# Altium schematic symbol library NewSmartwatch.SchLib: 40 symbols
Pins are listed as number, name and electrical type; pins without a type are passive.

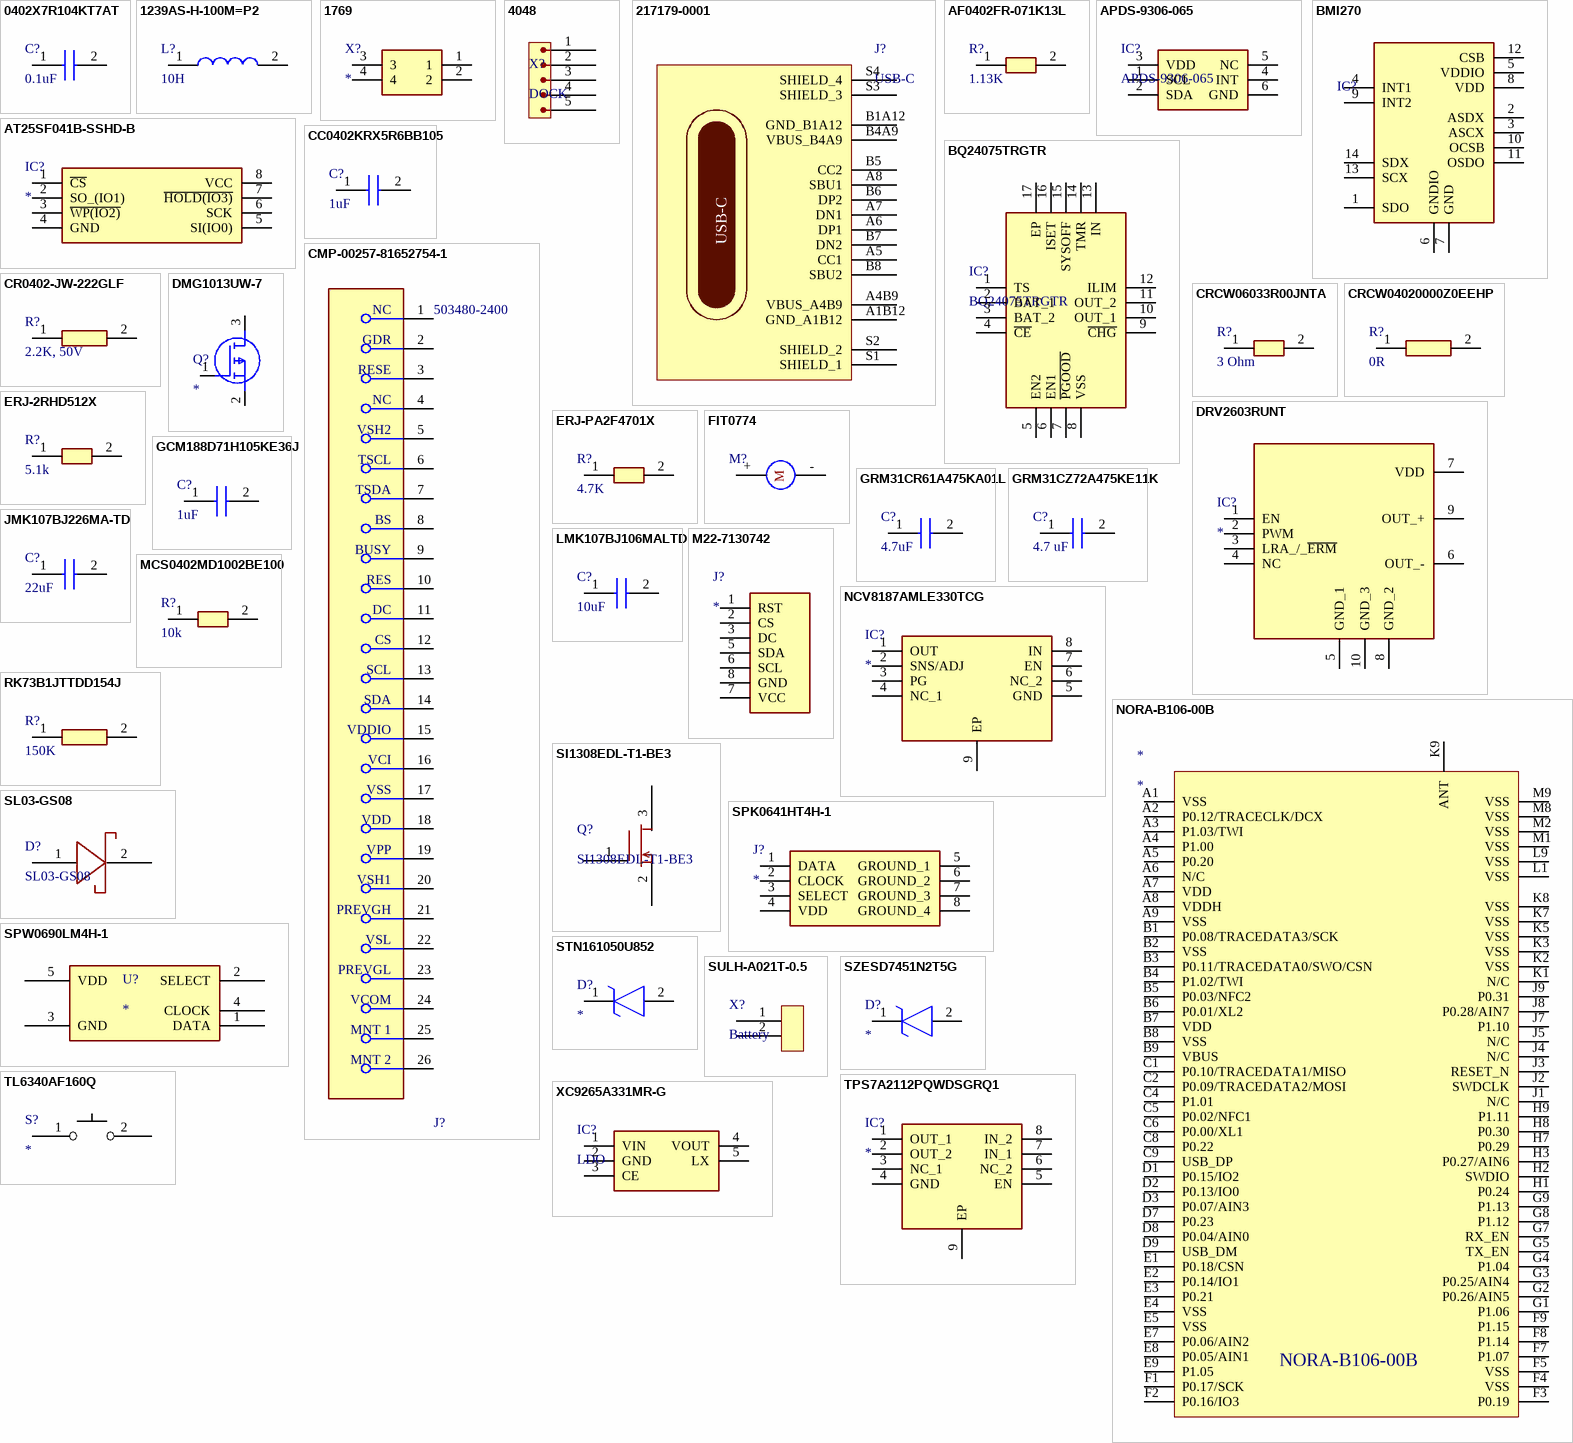
[diagram p0: symbols 0402X7R104KT7AT to XC9265A331MR-G]

## 0402X7R104KT7AT
designator C?, comment 0.1uF
Multilayer Ceramic Capacitors MLCC - SMD/SMT 16V 0.1uF X7R 10%; Manufacturer_Name: Kyocera AVX; Manufacturer_Part_Number: 0402X7R104KT7AT; Datasheet Link: https://www.mouser.es/datasheet/2/40/general_purpose-3169586.pdf; Height: 0.61mm; Mouser Part Number: 581-0402X7R104KT7AT; Mouser Price/Stock: https://www.mouser.co.uk/ProductDetail/KYOCERA-AVX/0402X7R104KT7AT?qs=DPoM0jnrROXD467pFR2ukA%3D%3D
footprint CAPC1005X61N
pins: 1, 2

## 1239AS-H-100M=P2
designator L?, comment 10H
Indutores de potência - SMD 10 UH 20%; Manufacturer_Name: Murata Electronics; Manufacturer_Part_Number: 1239AS-H-100M=P2; Datasheet Link: https://psearch.en.murata.com/inductor/product/1239AS-H-100M%23.html; Height: 1.2mm; Mouser Part Number: 81-1239AS-H-100MP2; Mouser Price/Stock: https://www.mouser.co.uk/ProductDetail/Murata-Electronics/1239AS-H-100M%3dP2?qs=KuGPmAKtFKWZyoO25uKvSg%3D%3D; Arrow Part Number: 1239AS-H-100M=P2; Arrow Price/Stock: https://www.arrow.com/en/products/1239as-h-100mp2/murata-manufacturing?region=nac
footprint DFE2HCAH1R0MJ0L
pins: 1, 2

## 1769
designator X?
Adafruit Accessories JST-PH 2-pin SMT Right Angle Connect; Manufacturer_Part_Number: 1769; Datasheet Link: https://cdn-shop.adafruit.com/datasheets/17311.pdf; Height: 5.5mm; Manufacturer_Name: Adafruit; Mouser Part Number: 485-1769; Mouser Price/Stock: https://www.mouser.co.uk/ProductDetail/Adafruit/1769?qs=GURawfaeGuBbgoGtf2XstA%3D%3D; Arrow Part Number: 1769; Arrow Price/Stock: https://www.arrow.com/en/products/1769/adafruit-industries?utm_currency=USD&region=nac
footprint 1769
pins: 1, 2, 3, 4

## 4048
designator X?, comment DOCK
Mini SWD 0.05 Pitch Connector - 10 Pin SMT Box Header | Adafruit Industries 4048; Manufacturer Part Number: 4048; Supplier: Mouser; Supplier Part Number: 485-4048; Manufacturer: Adafruit Industries; RoHS: No; Category: Connectors; Stock: 723; Pricing: 1=1,95, 10=1,95, 50=1,95, 100=1,95, 1000=1,95, 10000=1,95 (USD); ComponentLink1URL: https://media.digikey.com/pdf/Data%20Sheets/Adafruit%20PDFs/4048_Web.pdf?src-supplier=Digikey; ComponentLink1Description: https://media.digikey.com/pdf/Data%20Sheets/Adafruit%20PDFs/4048_Web.pdf?src-supplier=Digikey
footprint SAMTEC_FTSH-105-XX-X-DV
pins: 1, 2, 3, 4, 5

## 217179-0001
designator J?, comment USB-C
USB Connector, 16 Contact(s), Female, Right Angle, Surface Mount Terminal, Locking, Receptacle; Manufacturer: Molex; Manufacturer Part Number: 217179-0001; Supplier: Mouser; Supplier Part Number: 538-217179-0001; RoHS: No; Category: USB Connectors; Stock: 4841; Pricing: 1=0,9, 10=0,745, 50=0,745, 100=0,622, 1000=0,622, 10000=0,446 (USD)
footprint FP-2171790001-MFG
pins: A1B12 GND_A1B12, A4B9 VBUS_A4B9, A5 CC1, A6 DP1, A7 DN1, A8 SBU1, B1A12 GND_B1A12, B4A9 VBUS_B4A9, B5 CC2, B6 DP2, B7 DN2, B8 SBU2, S1 SHIELD_1, S2 SHIELD_2, S3 SHIELD_3, S4 SHIELD_4

## AF0402FR-071K13L
designator R?, comment 1.13K
Fixed Resistor, Metal Glaze/thick Film, 0.0625W, 1130ohm, 50V, 1% +/-Tol, 100ppm/Cel, Surface Mount, 0402; Manufacturer: Yageo; Manufacturer Part Number: AF0402FR-071K13L; Additional Feature: ANTI-SULFUR; Power: 62.5mW; Rated Temperature: 70°C; Value: 1.13kR; Temperature Coefficient: 100ppm/°C; Package Height: 0.32mm; Package Length: 1mm; Package Width: 0.5mm; Reference Standard: AEC-Q200; Supplier: Mouser; Supplier Part Number: 603-AF0402FR-071K13L; RoHS: Yes; Category: Chip SMD Resistors; Stock: 3100; Pricing: 1=0,15, 10=0,037, 50=0,037, 100=0,02, 1000=0,012, 10000=0,006 (USD); Mounting Technology: Surface Mount; Pins: 2; Case/Package: 0402; Min Operating Temperature: -55°C; Max Operating Temperature: 155°C; Tolerance: 1%; Resistor Type: FIXED RESISTOR; Construction: Rectangular; Package Style: SMTMeter; Packaging: Tape and Reel; Termination: Wraparound; Working Voltage: 50V; Reach SVHC Compliant: Yes; RoHS Compliant: Yes; ComponentLink1URL: https://datasheet.ciiva.com:443/pdfs/VipMasterIC/IC/YAGO/YAGO-S-A0009016998/YAGO-S-A0009016998-1.pdf?src-supplier=IHS+Markit; ComponentLink1Description: https://datasheet.ciiva.com:443/pdfs/VipMasterIC/IC/YAGO/YAGO-S-A0009016998/YAGO-S-A0009016998-1.pdf?src-supplier=IHS+Markit; ComponentLink2URL: https://www.yageo.com/upload/media/product/productsearch/datasheet/rchip/PYu-AF_51_RoHS_L_6.pdf?src-supplier=Digikey; ComponentLink2Description: https://www.yageo.com/upload/media/product/productsearch/datasheet/rchip/PYu-AF_51_RoHS_L_6.pdf?src-supplier=Digikey
footprint RESC1005X37N
pins: 1, 2

## APDS-9306-065
designator IC?
Ambient Light Sensors Digital Ambient Light Sensor; Manufacturer_Name: Avago Technologies; Datasheet Link: A19870331a; Height: 0.75mm; Manufacturer_Part_Number: APDS-9306-065; Mouser Part Number: 630-APDS-9306-065; Mouser Price/Stock: https://www.mouser.co.uk/ProductDetail/Broadcom-Avago/APDS-9306-065?qs=JUmsgfbaopRTut8Cx4p19A%3D%3D
footprint APDS9306065
pins: 1 SCL, 2 SDA, 3 VDD, 4 INT, 5 NC, 6 GND

## AT25SF041B-SSHD-B
designator IC?
NOR Flash 4 Mbit, 3.0V (2.5V to 3.6V), -40C to 85C, SOIC-N 150mil (Tube), Single, Dual, Quad SPI NOR Flash; Manufacturer_Name: Renesas Electronics; Manufacturer_Part_Number: AT25SF041B-SSHD-B; Datasheet Link: https://www.mouser.in/datasheet/2/698/REN_DS_AT25SF041B_190H_062022_DST_20220603_1-3076039.pdf; Height: 1.75mm; Mouser Part Number: 988-AT25SF041BSSHDB; Mouser Price/Stock: https://www.mouser.co.uk/ProductDetail/Renesas-Dialog/AT25SF041B-SSHD-B?qs=IS%252B4QmGtzzoAv7Cb4U2tFA%3D%3D
footprint SOIC127P600X175-8N
pins: 1 ~{CS}, 2 SO_(IO1), 3 ~{WP(IO2)}, 4 GND, 5 SI(IO0), 6 SCK, 7 ~{HOLD(IO3)}, 8 VCC

## BMI270
designator IC?, comment IMU  (value not drawn)
IMUs - Inertial Measurement Units Smart Ultra-Low Power Inertial Measurement Unit (IMU) for Wearable Applications; Manufacturer_Name: BOSCH; Manufacturer_Part_Number: BMI270; Datasheet Link: https://www.bosch-sensortec.com/media/boschsensortec/downloads/datasheets/bst-bmi270-ds000.pdf; Height: 0.87mm; Mouser Part Number: 262-BMI270; Mouser Price/Stock: https://www.mouser.co.uk/ProductDetail/Bosch-Sensortec/BMI270?qs=u16ybLDytRYIj%252BjQEee88A%3D%3D; Arrow Part Number: BMI270; Arrow Price/Stock: https://www.arrow.com/en/products/bmi270/bosch?utm_currency=USD&region=nac
footprint BMI270
pins: 1 SDO, 2 ASDX, 3 ASCX, 4 INT1, 5 VDDIO, 6 GNDIO, 7 GND, 8 VDD, 9 INT2, 10 OCSB, 11 OSDO, 12 CSB, 13 SCX, 14 SDX

## BQ24075TRGTR
designator IC?
Gerenciadores de bateria 1.5A USB-Friendly Li Ion Batt Charger; Manufacturer_Name: Texas Instruments; Datasheet Link: http://componentsearchengine.com/Datasheets/1/BQ24075TRGTR.pdf; Height: 1mm; Manufacturer_Part_Number: BQ24075TRGTR; Mouser Part Number: 595-BQ24075TRGTR; Mouser Price/Stock: https://www.mouser.co.uk/ProductDetail/Texas-Instruments/BQ24075TRGTR?qs=%2Fqzd9s%252BcLd4uxZAT5jNskQ%3D%3D; Arrow Part Number: BQ24075TRGTR; Arrow Price/Stock: https://www.arrow.com/en/products/bq24075trgtr/texas-instruments?region=nac
footprint QFN50P300X300X100-17N-D
pins: 1 TS, 2 BAT_1, 3 BAT_2, 4 ~{CE}, 5 EN2, 6 EN1, 7 ~{PGOOD}, 8 VSS, 9 ~{CHG}, 10 OUT_1, 11 OUT_2, 12 ILIM, 13 IN, 14 TMR, 15 SYSOFF, 16 ISET, 17 EP

## CC0402KRX5R6BB105
designator C?, comment 1uF
Multilayer Ceramic Capacitors MLCC - SMD/SMT 10V 1uF X5R 0402 10% HI CV; Manufacturer_Name: YAGEO; Manufacturer_Part_Number: CC0402KRX5R6BB105; Datasheet Link: https://www.yageo.com/upload/media/product/app/datasheet/mlcc/upy-gphc_x5r_4v-to-50v.pdf; Height: 0.55mm; Mouser Part Number: 603-CC402KRX5R6BB105; Mouser Price/Stock: https://www.mouser.co.uk/ProductDetail/YAGEO/CC0402KRX5R6BB105?qs=BKNoF%2F0xMNu0TvpE6ze2Iw%3D%3D; Arrow Part Number: CC0402KRX5R6BB105; Arrow Price/Stock: https://www.arrow.com/en/products/cc0402krx5r6bb105/yageo?region=nac
footprint CAPC1005X65N
pins: 1, 2

## CMP-00257-81652754-1
designator J?, comment 503480-2400
503480-2400 Molex 503480-2400 FFC & FPC Connectors, 0.5mm, FPC Ra Smt Dual Cont 24 Circuit,; Manufacturer Lifecycle Status: ACTIVE; NexarPartId: 81652754; Number of Contacts: 24; Voltage Rating: 50V; Plating: Gold; Current Rating: 500mA; Contact Plating: Gold; Mount: Surface Mount; Country of Origin: KR; Number of Rows: 1; Orientation: Right Angle; Lifecycle Status: Production; RoHS: Compliant; Min Operating Temperature: -40°C; Contact Material: Gold, Nickel; Max Operating Temperature: 85°C; Height: 2.07mm; Number of Circuits: 24
footprint MOLEX_5034802400
pins: 1, 2, 3, 4, 5, 6, 7, 8, 9, 10, 11, 12, 13, 14, 15, 16, 17, 18, 19, 20, 21, 22, 23, 24, 25 MNT 1, 26 MNT 2
text: NC; GDR; RESE; VSH2; TSCL; TSDA; BS; BUSY; RES; DC; CS; SCL; SDA; VDDIO; VCI; VSS; VDD; VPP; VSH1; PREVGH; VSL; PREVGL; VCOM

## CR0402-JW-222GLF
designator R?, comment 2.2K, 50V
Thick Film Resistors - SMD 2.2K OHM 5%; Manufacturer_Name: Bourns; Manufacturer_Part_Number: CR0402-JW-222GLF; Datasheet Link: https://www.bourns.com/pdfs/CR0402.pdf; Height: 0.4mm; Mouser Part Number: 652-CR0402JW-222GLF; Mouser Price/Stock: https://www.mouser.co.uk/ProductDetail/Bourns/CR0402-JW-222GLF?qs=K5ddiUFZPT6h6bTSWuaUNg%3D%3D; Arrow Part Number: CR0402-JW-222GLF; Arrow Price/Stock: https://www.arrow.com/en/products/cr0402-jw-222glf/bourns?region=nac
footprint RESC1005X40N
pins: 1, 2

## CRCW06033R00JNTA
designator R?, comment 3 Ohm
Fixed Resistor, Metal Glaze/thick Film, 0.1W, 3ohm, 75V, 5% +/-Tol, 200ppm/Cel, Surface Mount, 0603; Manufacturer: Vishay Dale; Manufacturer Part Number: CRCW06033R00JNTA; Manufacturer Series: CRCW; Power: 100mW; Rated Temperature: 70°C; Value: 3R; Temperature Coefficient: 200ppm/°C; Package Height: 0.45mm; Package Length: 1.55mm; Package Width: 0.85mm; Reference Standard: AEC-Q200; Supplier: Mouser; Supplier Part Number: 71-CRCW0603J-3; RoHS: No; Category: Chip SMD Resistors; Stock: 24685; Pricing: 1=0,16, 10=0,111, 50=0,111, 100=0,042, 1000=0,018, 10000=0,013 (USD); Mounting Technology: Surface Mount; Pins: 2; Package Shape: Rectangular; Case/Package: 0603; Terminal Finish: Nickel; Min Operating Temperature: -55°C; Max Operating Temperature: 155°C; Tolerance: 5%; JESD-609 Code: e0; Resistor Type: FIXED RESISTOR; Construction: Chip; Package Style: SMTMeter; Packaging: Tape and Reel; Series: D/CRCW; Technology: METAL GLAZE/THICK FILM; Termination: Wraparound; Working Voltage: 75V; RoHS Compliant: No; Reach SVHC Compliant: No; ComponentLink1URL: https://datasheet.ciiva.com:443/pdfs/VipMasterIC/IC/VISH/VISH-S-A0002183699/VISH-S-A0002183699-1.pdf?src-supplier=IHS+Markit; ComponentLink1Description: https://datasheet.ciiva.com:443/pdfs/VipMasterIC/IC/VISH/VISH-S-A0002183699/VISH-S-A0002183699-1.pdf?src-supplier=IHS+Markit; ComponentLink2URL: https://datasheet.ciiva.com/2563/dcrcw-2563882.pdf?src-supplier=Digikey; ComponentLink2Description: https://datasheet.ciiva.com/2563/dcrcw-2563882.pdf?src-supplier=Digikey; ComponentLink3URL: https://datasheet.ciiva.com/9082/dcrcw-9082586.pdf?src-supplier=Avnet; ComponentLink3Description: https://datasheet.ciiva.com/9082/dcrcw-9082586.pdf?src-supplier=Avnet
footprint RESC1508X50N
pins: 1, 2

## CRCW04020000Z0EEHP
designator R?, comment 0R
Thick Film Resistors - SMD CRCW 402 jumper / 0OHM; Manufacturer_Name: Vishay; Manufacturer_Part_Number: CRCW04020000Z0EEHP; Datasheet Link: http://www.vishay.com/docs/20035/dcrcwe3.pdf; Height: 0.4mm; Mouser Part Number: 71-CRCW04020000Z0EEH; Mouser Price/Stock: https://www.mouser.co.uk/ProductDetail/Vishay/CRCW04020000Z0EEHP?qs=Imq1NPwxi74NTc567q7flQ%3D%3D; Arrow Part Number: CRCW04020000Z0EEHP; Arrow Price/Stock: https://www.arrow.com/en/products/crcw04020000z0eehp/vishay?utm_currency=USD&region=nac
footprint RESC1005X40N
pins: 1, 2

## DMG1013UW-7
designator Q?
MOSFET (P-Channel); Manufacturer_Name: Diodes Incorporated; Manufacturer_Part_Number: DMG1013UW-7; Datasheet Link: https://www.diodes.com//assets/Datasheets/ds31861.pdf; Height: 1.1mm; Mouser Part Number: 621-DMG1013UW-7; Mouser Price/Stock: https://www.mouser.co.uk/ProductDetail/Diodes-Incorporated/DMG1013UW-7?qs=GWgl%252BsiMZr9p7lJcuAyJvw%3D%3D; Arrow Part Number: DMG1013UW-7; Arrow Price/Stock: https://www.arrow.com/en/products/dmg1013uw-7/diodes-incorporated?region=nac
footprint SOT65P210X110-3N
pins: 1 G, 2 S, 3 D

## DRV2603RUNT
designator IC?
Motor / Motion / Ignition Controllers & Drivers Haptic Driver w/Auto Resonance Tracking; Manufacturer_Name: Texas Instruments; Manufacturer_Part_Number: DRV2603RUNT; Datasheet Link: http://www.ti.com/lit/ds/symlink/drv2603.pdf; Height: 0.8mm; Mouser Part Number: 595-DRV2603RUNT; Mouser Price/Stock: https://www.mouser.co.uk/ProductDetail/Texas-Instruments/DRV2603RUNT?qs=y0LsnOHuQQ66fXxKAgGo4A%3D%3D; Arrow Part Number: DRV2603RUNT; Arrow Price/Stock: https://www.arrow.com/en/products/drv2603runt/texas-instruments
footprint QFN50P200X200X80-10N-D
pins: 1 EN, 2 PWM, 3 LRA_/_~{ERM}, 4 NC, 5 GND_1, 6 OUT_-, 7 VDD, 8 GND_2, 9 OUT_+, 10 GND_3

## ERJ-2RHD512X
designator R?, comment 5.1k
Fixed Resistor, Metal Glaze/thick Film, 0.063W, 5110ohm, 50V, 0.5% +/-Tol, 50ppm/Cel, Surface Mount, 0402; Manufacturer: Panasonic; Manufacturer Part Number: ERJ-2RHD512X; Manufacturer Series: ERJ2R; Power: 63mW; Rated Temperature: 70°C; Value: 5.11kR; Temperature Coefficient: 50ppm/°C; Supplier: Mouser; Supplier Part Number: 667-ERJ-2RHD512X; RoHS: Yes; Stock: 18329; Pricing: 1=0,13, 10=0,11, 50=0,11, 100=0,043, 1000=0,019, 10000=0,019 (USD); Mounting Technology: Surface Mount; Pins: 2; Package Shape: Rectangular; Case/Package: 0402; Terminal Finish: Tin; Min Operating Temperature: -55°C; Max Operating Temperature: 125°C; Tolerance: 0.5%; JESD-609 Code: e3; Resistor Type: FIXED RESISTOR; Packaging: Tape and Reel; Technology: METAL GLAZE/THICK FILM; Termination: Wraparound; Working Voltage: 50V; Reach SVHC Compliant: Yes; RoHS Compliant: Yes; ComponentLink1URL: https://datasheet.ciiva.com:443/pdfs/VipMasterCap/Capacitor/PANA/PANAS11022/PANAS11022-1.pdf?src-supplier=IHS+Markit; ComponentLink1Description: https://datasheet.ciiva.com:443/pdfs/VipMasterCap/Capacitor/PANA/PANAS11022/PANAS11022-1.pdf?src-supplier=IHS+Markit; ComponentLink2URL: https://datasheet.ciiva.com/24037/aoa0000ce2-24037669.pdf?src-supplier=Mouser; ComponentLink2Description: https://datasheet.ciiva.com/24037/aoa0000ce2-24037669.pdf?src-supplier=Mouser
footprint RESC1005X40
pins: 1, 2

## ERJ-PA2F4701X
designator R?, comment 4.7K
Thick Film Resistors - SMD 0402 1% 4.7Kohm Anti-Surge AEC-Q200; Manufacturer_Name: Panasonic; Manufacturer_Part_Number: ERJ-PA2F4701X; Datasheet Link: http://industrial.panasonic.com/cdbs/www-data/pdf/RDO0000/AOA0000C331.pdf; Height: 0.4mm; Mouser Part Number: 667-ERJ-PA2F4701X; Mouser Price/Stock: https://www.mouser.co.uk/ProductDetail/Panasonic/ERJ-PA2F4701X?qs=h9NfwcE6J0JdNXujYyUhOg%3D%3D; Arrow Part Number: ERJ-PA2F4701X; Arrow Price/Stock: https://www.arrow.com/en/products/erj-pa2f4701x/panasonic?region=nac; Supplier 1: Mouser; Supplier Part Number 1: 667-ERJ-PA2F4701X; Value: *
footprint ERJPA2_(0402)
pins: 1, 2

## FIT0774
designator M?
Mini Vibration Motor (10*2.7MM); Manufacturer: DFRobot; Manufacturer Part Number: FIT0774; Supplier: Mouser; Supplier Part Number: 426-FIT0774; RoHS: No; Category: Motors and Drives; Stock: 3316; Pricing: 1=0,99, 10=0,99, 50=0,99, 100=0,99, 1000=0,99, 10000=0,99 (USD)
footprint FIT0774
pins: + 2, - 1
text: M

## GCM188D71H105KE36J
designator C?, comment 1uF
Capacitores de cerâmica multicamada MLCC - SMD/SMT 0603 50VDC X7T 1uF 10% AEC-Q200; Manufacturer: Murata; Manufacturer Part Number: GCM188D71H105KE36J; Supplier: Mouser; Supplier Part Number: 81-GCM188D71H105KE6J; RoHS: No; Category: Ceramic Capacitors; Stock: 8350; Pricing: 1=0,25, 10=0,101, 50=0,101, 100=0,059, 1000=0,051, 10000=0,039 (USD)
footprint GCM188D71H105KE36J
pins: 1, 2

## GRM31CR61A475KA01L
designator C?, comment 4.7uF
Multilayer Ceramic Capacitors MLCC - SMD/SMT 4.7 uF 10 VDC 20% 0402 X5R; Manufacturer_Name: Murata Electronics; Manufacturer_Part_Number: GRM31CR61A475KA01L; Datasheet Link: http://www.murata.com/~/media/webrenewal/support/library/catalog/products/capacitor/mlcc/c02e.pdf; Height: 1.8mm; Mouser Part Number: 81-GRM426R475K10L; Mouser Price/Stock: https://www.mouser.co.uk/ProductDetail/Murata-Electronics/GRM31CR61A475KA01L?qs=v6FXEKp3YeVDfOIVbbYCqg%3D%3D; Arrow Part Number: GRM31CR61A475KA01L; Arrow Price/Stock: https://www.arrow.com/en/products/grm31cr61a475ka01l/murata-manufacturing
footprint CAPC1005X65N
pins: 1, 2

## GRM31CZ72A475KE11K
designator C?, comment 4.7 uF
Capacitores de cerâmica multicamada MLCC - SMD/SMT 4.7 uF 100 VDC 10% 1206 X7R; Manufacturer_Name: Murata Electronics; Manufacturer_Part_Number: GRM31CZ72A475KE11K; Datasheet Link: https://search.murata.co.jp/Ceramy/image/img/A01X/G101/ENG/GRM31CZ72A475KE11-01A.pdf; Height: 1.15mm; Mouser Part Number: 81-GRM31CZ72A475K11K; Mouser Price/Stock: https://www.mouser.co.uk/ProductDetail/Murata-Electronics/GRM31CZ72A475KE11K?qs=d0WKAl%252BL4KZ8%252BL6wtNbppg%3D%3D
footprint GRM31x
pins: 1, 2

## JMK107BJ226MA-TD
designator C?, comment 22uF
Capacitores de cerâmica multicamada MLCC - SMD/SMT 6.3V 22uF X5R 0603 20 %; Manufacturer_Name: TAIYO YUDEN; Manufacturer_Part_Number: JMK107BJ226MA-TD; Datasheet Link: https://ds.yuden.co.jp/TYCOMPAS/ut/download?pn=LMK063BBJ474MPLF&fileType=CA; Height: 0.9mm; Mouser Part Number: 963-JMK107BJ226MA-TD; Mouser Price/Stock: https://www.mouser.co.uk/ProductDetail/Taiyo-Yuden/JMK107BJ226MA-TD?qs=lkMpTOwszhdNQzwHcFE2kQ%3D%3D
footprint CAPC1608X90N
pins: 1, 2

## LMK107BJ106MALTD
designator C?, comment 10uF
Capacitores de cerâmica multicamada MLCC - SMD/SMT 10V 10uF X5R 0603 20 %; Manufacturer_Name: TAIYO YUDEN; Manufacturer_Part_Number: LMK107BJ106MALTD; Datasheet Link: https://ds.yuden.co.jp/TYCOMPAS/ut/download?pn=LMK063BBJ474MPLF&fileType=CA; Height: 0.9mm; Mouser Part Number: 963-LMK107BJ106MALTD; Mouser Price/Stock: https://www.mouser.co.uk/ProductDetail/TAIYO-YUDEN/LMK107BJ106MALTD?qs=PzICbMaShUde1djJr8Be9g%3D%3D; Arrow Part Number: LMK107BJ106MALTD; Arrow Price/Stock: https://www.arrow.com/en/products/lmk107bj106maltd/taiyo-yuden
footprint CAPC1608X90N
pins: 1, 2

## M22-7130742
designator J?
Connector; Manufacturer_Name: Harwin; Manufacturer_Part_Number: M22-7130742; Datasheet Link: https://cdn.harwin.com/pdfs/M22-713.pdf; Height: 4.4mm; Mouser Part Number: 855-M22-7130742; Mouser Price/Stock: https://www.mouser.co.uk/ProductDetail/Harwin/M22-7130742?qs=ulE8k0yEMYatGybRLMpABg%3D%3D
footprint SHDR7W50P0X200_1X7_1450X240X440P
pins: 1 RST, 2 CS, 3 DC, 5 SDA, 6 SCL, 7 VCC, 8 GND

## MCS0402MD1002BE100
designator R?, comment 10k
Resistores de Filme Fino - SMD .063W 10Kohms 0.1% 0402 25ppm Auto; Manufacturer_Name: Vishay; Manufacturer_Part_Number: MCS0402MD1002BE100; Datasheet Link: http://www.vishay.com/docs/28705/mcx0x0xpro.pdf; Height: 0.37mm; Mouser Part Number: 594-MCS0402MD1002BE1; Mouser Price/Stock: https://www.mouser.co.uk/ProductDetail/Vishay-Beyschlag/MCS0402MD1002BE100?qs=3SvaY9RawMIFge2HspqWnA%3D%3D; Arrow Part Number: MCS0402MD1002BE100; Arrow Price/Stock: https://www.arrow.com/en/products/mcs0402md1002be100/vishay?region=nac
footprint RESC1005X37N
pins: 1, 2

## NCV8187AMLE330TCG
designator IC?
LDO Voltage Regulators 1.2A LDO Regulator, Low Dropout Voltage, Low Noise with Power Good Output flipped die, 3V3, active discharge; Manufacturer_Name: onsemi; Manufacturer_Part_Number: NCV8187AMLE330TCG; Datasheet Link: https://www.onsemi.com/pdf/datasheet/ncv8187-d.pdf; Height: 1mm; Mouser Part Number: 863-CV8187AMLE330TCG; Mouser Price/Stock: https://www.mouser.co.uk/ProductDetail/onsemi/NCV8187AMLE330TCG?qs=HBWAp0VN4RhK8HbhfCLXcQ%3D%3D; Arrow Part Number: NCV8187AMLE330TCG; Arrow Price/Stock: https://www.arrow.com/en/products/ncv8187amle330tcg/on-semiconductor?region=nac
footprint SON65P300X300X100-9N-D
pins: 1 OUT, 2 SNS/ADJ, 3 PG, 4 NC_1, 5 GND, 6 NC_2, 7 EN, 8 IN, 9 EP

## NORA-B106-00B
designator *
Bluetooth Modules - 802.15.1 nRF5340, PCB antenna, open CPU; Manufacturer: u-blox; Manufacturer Part Number: NORA-B106-00B; Supplier: Mouser; Supplier Part Number: 377-NORA-B106-00B; RoHS: No; Category: LDO; Stock: 4440; Pricing: 1=14, 10=12,74, 50=11,72, 100=10,9, 1000=10,9, 10000=10,9 (USD); ComponentLink1URL: https://datasheet.octopart.com/NORA-B106-00B-u-blox-datasheet-166811452.pdf?src-supplier=TME; ComponentLink1Description: https://datasheet.octopart.com/NORA-B106-00B-u-blox-datasheet-166811452.pdf?src-supplier=TME
footprint XCVR_NORA-B106-00B
pins: A1 VSS, A2 P0.12/TRACECLK/DCX, A3 P1.03/TWI, A4 P1.00, A5 P0.20, A6 N/C, A7 VDD, A8 VDDH, A9 VSS, B1 P0.08/TRACEDATA3/SCK, B2 VSS, B3 P0.11/TRACEDATA0/SWO/CSN, B4 P1.02/TWI, B5 P0.03/NFC2, B6 P0.01/XL2, B7 VDD, B8 VSS, B9 VBUS, C1 P0.10/TRACEDATA1/MISO, C2 P0.09/TRACEDATA2/MOSI, C4 P1.01, C5 P0.02/NFC1, C6 P0.00/XL1, C8 P0.22, C9 USB_DP, D1 P0.15/IO2, D2 P0.13/IO0, D3 P0.07/AIN3, D7 P0.23, D8 P0.04/AIN0, D9 USB_DM, E1 P0.18/CSN, E2 P0.14/IO1, E3 P0.21, E4 VSS, E5 VSS, E7 P0.06/AIN2, E8 P0.05/AIN1, E9 P1.05, F1 P0.17/SCK, F2 P0.16/IO3, F3 P0.19, F4 VSS, F5 VSS, F7 P1.07, F8 P1.14, F9 P1.15, G1 P1.06, G2 P0.26/AIN5, G3 P0.25/AIN4, G4 P1.04, G5 TX_EN, G7 RX_EN, G8 P1.12, G9 P1.13, H1 P0.24, H2 SWDIO, H3 P0.27/AIN6, H7 P0.29, H8 P0.30, H9 P1.11, J1 N/C, J2 SWDCLK, J3 RESET_N, J4 N/C, J5 N/C, J7 P1.10, J8 P0.28/AIN7, J9 P0.31, K1 N/C, K2 VSS, K3 VSS, K5 VSS, K7 VSS, K8 VSS, K9 ANT, L1 VSS, L9 VSS, M1 VSS, M2 VSS, M8 VSS, M9 VSS

## RK73B1JTTDD154J
designator R?, comment 150K
Thick Film Resistors - SMD 1/10W 150K OHM 5%; Manufacturer_Name: KOA Speer; Manufacturer_Part_Number: RK73B1JTTDD154J; Datasheet Link: http://www.koaspeer.com/catimages/Products/RK73-RT/RK73-RT.pdf; Height: 0.55mm; Mouser Part Number: 660-RK73B1JTTDD154J; Mouser Price/Stock: https://www.mouser.co.uk/ProductDetail/KOA-Speer/RK73B1JTTDD154J?qs=eQc%252BYniTHCffTX8fUgD2hw%3D%3D
footprint RESC1608X55N
pins: 1, 2

## SI1308EDL-T1-BE3
designator Q?
Transistor MOSFET N-Channel 30V 1.4A 3-Pin SOT-323; Manufacturer: Vishay; Supplier: Mouser; Supplier Part Number: 78-SI1308EDL-T1-BE3; Manufacturer Part Number: SI1308EDL-T1-BE3; RoHS: No; Stock: 79433; Pricing: 1=0,4, 10=0,276, 50=0,276, 100=0,172, 1000=0,129, 10000=0,098 (USD); ComponentLink1URL: https://datasheet.octopart.com/SI1308EDL-T1-BE3-Vishay-datasheet-151651462.pdf?src-supplier=Future+Electronics; ComponentLink1Description: https://datasheet.octopart.com/SI1308EDL-T1-BE3-Vishay-datasheet-151651462.pdf?src-supplier=Future+Electronics
footprint SI1308EDL-T1-BE3
pins: 1, 2, 3

## SL03-GS08
designator D?
Rectifier Diode, Schottky, 1 Phase, 1 Element, 1.1A, 30V V(RRM), Silicon, DO-219AB; Manufacturer: Vishay Semiconductors; Package Body Material: Plastic; Application(s): EFFICIENCY; Forward Voltage: 430mV; Non-rep Pk Forward Current-Max: 40A; Number of Elements: 1; Qualification Status: Not Qualified; Supplier: Mouser; Supplier Part Number: 625-SL03; Manufacturer Part Number: SL03-GS08; RoHS: Yes; Category: Rectifier Diodes; Stock: 88607; Pricing: 1=0,41, 10=0,274, 50=0,339, 100=0,185, 500=0,144, 1000=0,13, 3000=0,099, 9000=0,089, 10000=0,092, 24000=0,087 (USD); Pins: 2; Diode Element Material: SILICON; Package Shape: Rectangular; Terminal Finish: Tin; Max Operating Temperature: 125°C; JESD-609 Code: e3; Diode Type: RECTIFIER; JESD-30 Code: R-PDSO-F2; Moisture Sensitivity Level: 1; Number of Phases: 1; Max Output current: 1.1A; Package Style: SMALL OUTLINEMeter; Rep Pk Reverse Voltage-Max: 30V; Surface Mount: Yes; Technology: SCHOTTKY; Terminal Form: Flat; Terminal Position: DUAL; JEDEC-95 Code: DO-219AB; RoHS Compliant: Yes; Reach SVHC Compliant: No; ComponentLink1URL: https://datasheet.ciiva.com:443/pdfs/VipMasterIC/IC/VISH/VISH-S-A0009169378/VISH-S-A0009169378-1.pdf?src-supplier=IHS+Markit; ComponentLink1Description: https://datasheet.ciiva.com:443/pdfs/VipMasterIC/IC/VISH/VISH-S-A0009169378/VISH-S-A0009169378-1.pdf?src-supplier=IHS+Markit; ComponentLink2URL: https://datasheet.ciiva.com/910/sl02-03-04-910861.pdf?src-supplier=Digikey; ComponentLink2Description: https://datasheet.ciiva.com/910/sl02-03-04-910861.pdf?src-supplier=Digikey; ComponentLink3URL: https://datasheet.ciiva.com/910/sl02-910862.pdf?src-supplier=Digikey; ComponentLink3Description: https://datasheet.ciiva.com/910/sl02-910862.pdf?src-supplier=Digikey; ComponentLink4URL: https://datasheet.ciiva.com/910/sl02-910863.pdf?src-supplier=Digikey; ComponentLink4Description: https://datasheet.ciiva.com/910/sl02-910863.pdf?src-supplier=Digikey; ComponentLink5URL: https://datasheet.ciiva.com/8290/sl02-8290522.pdf?src-supplier=Avnet; ComponentLink5Description: https://datasheet.ciiva.com/8290/sl02-8290522.pdf?src-supplier=Avnet; ComponentLink6URL: https://datasheet.ciiva.com/16486/sl02-16486940.pdf?src-supplier=Future+Electronics; ComponentLink6Description: https://datasheet.ciiva.com/16486/sl02-16486940.pdf?src-supplier=Future+Electronics
footprint SODFL3718X108N
pins: 1, 2

## SPK0641HT4H-1
designator J?
Microfones MEMS SISONIC MEMS MICROPHONE;Digital;Top;64.5dB SNR;120dB SPL;-26 +/-1dBV;35Hz;70dB PSRR;Low Power: 230 / Standard: 630;1.8V; Manufacturer_Name: Knowles Johanson Manufacturing; Manufacturer_Part_Number: SPK0641HT4H-1; Datasheet Link: https://www.knowles.com/docs/default-source/model-downloads/spk0641ht4h-1-rev-a.pdf; Height: 1.1mm; Mouser Part Number: 721-SPK0641HT4H-1; Mouser Price/Stock: https://www.mouser.com/Search/Refine.aspx?Keyword=721-SPK0641HT4H-1
footprint SPK0641HT4H1
pins: 1 DATA, 2 CLOCK, 3 SELECT, 4 VDD, 5 GROUND_1, 6 GROUND_2, 7 GROUND_3, 8 GROUND_4

## SPW0690LM4H-1
designator U?
MEMS Microphones SISONIC MEMS MICROPHONE;Digital;Bottom;66.5dB SNR;135dB SPL;-41+/-1dBV;40Hz;88dB PSRR;Low Power: 260 / Standard: 1000;1.8V; Manufacturer: Knowles; Manufacturer Part Number: SPW0690LM4H-1; Supplier: Digikey; Supplier Part Number: 423-SPW0690LM4H-1CT-ND; RoHS: No; Category: Microphones; Stock: 8257; Pricing: 1=1,75, 10=1,429, 25=1,3168, 50=1,2386, 100=1,165, 250=1,0748, 500=1,01156, 1000=0,95237 (USD); RoHS Compliant: Yes; ComponentLink1URL: https://media.digikey.com/pdf/Data%20Sheets/Knowles%20Acoustics%20PDFs/SPW0690LM4H-1_DS.pdf?src-supplier=Digikey; ComponentLink1Description: https://media.digikey.com/pdf/Data%20Sheets/Knowles%20Acoustics%20PDFs/SPW0690LM4H-1_DS.pdf?src-supplier=Digikey
footprint Mic
pins: 1 DATA, 2 SELECT, 3 GND, 4 CLOCK, 5 VDD

## STN161050U852
designator D?
TVS Diode (Uni-directional); Manufacturer_Name: Eaton; Manufacturer_Part_Number: STN161050U852; Datasheet Link: https://www.digikey.com/en/products/detail/eaton-electronics-division/STN161050U852/13280470?msockid=3e3afa68a50969ca3057ef1ca4c9684b; Height: 0.55mm; Mouser Part Number: 504-STN161050U852; Mouser Price/Stock: https://www.mouser.co.uk/ProductDetail/Bussmann-Eaton/STN161050U852?qs=DPoM0jnrROX%2FlbVCTeWaTw%3D%3D
footprint STN161050U852
pins: 1 K, 2 A

## SULH-A021T-0.5
designator X?, comment Battery
Manufacturer: JST; Manufacturer Part Number: SULH-A021T-0.5; Supplier: Mouser; Supplier Part Number: 306-SULHA021T05; RoHS: No; Stock: 156516; Pricing: 1=0,14, 10=0,11, 50=0,11, 100=0,081, 1000=0,059, 10000=0,048 (USD)
footprint JST_PHR-2
pins: 1, 2

## SZESD7451N2T5G
designator D?
Trans Voltage Suppressor Diode, 3.3V V(RWM), Bidirectional, 1 Element, Silicon; Manufacturer: ON Semiconductor; Manufacturer Part Number: SZESD7451N2T5G; Package Body Material: Plastic; Max Breakdown Voltage: 7.5V; Min Breakdown Voltage: 5V; Breakdown Voltage-Nom: 6V; Clamping Voltage-Max: 13V; Number of Elements: 1; Max Power Dissipation: 250mW; Reference Standard: AEC-Q101; Supplier: Arrow Electronics; Supplier Part Number: SZESD7451N2T5G; RoHS: Yes; Category: ESD and Circuit Protection ICs; Stock: 2784; Pricing: 1=0,3094, 10=0,2773, 25=0,2745, 100=0,2192, 250=0,2184, 500=0,1798, 1000=0,1387, 3000=0,1384, 6000=0,1358 (USD); Pins: 2; Diode Element Material: SILICON; Package Shape: Rectangular; Terminal Finish: Nickel; Min Operating Temperature: -55°C; Max Operating Temperature: 150°C; JESD-609 Code: e4; Polarity: Bidirectional; Diode Type: TRANS VOLTAGE SUPPRESSOR; Moisture Sensitivity Level: 1; Package Style: CHIP CARRIERMeter; Rep Pk Reverse Voltage-Max: 3.3V; Surface Mount: Yes; Technology: AVALANCHE; Terminal Form: No Lead; Terminal Position: BOTTOM; Reach SVHC Compliant: Yes; RoHS Compliant: Yes; ComponentLink1URL: https://datasheet.ciiva.com:443/pdfs/VipMasterIC/IC/ONSM/ONSM-S-A0002809148/ONSM-S-A0002809148-1.pdf?src-supplier=IHS+Markit; ComponentLink1Description: https://datasheet.ciiva.com:443/pdfs/VipMasterIC/IC/ONSM/ONSM-S-A0002809148/ONSM-S-A0002809148-1.pdf?src-supplier=IHS+Markit; ComponentLink2URL: https://datasheet.ciiva.com/48533/esd7451-d-48533317.pdf?src-supplier=Avnet; ComponentLink2Description: https://datasheet.ciiva.com/48533/esd7451-d-48533317.pdf?src-supplier=Avnet
footprint DIO_PESD5V5C1ULYL
pins: 1 K, 2 A

## TL6340AF160Q
designator S?
Keypad Switch, 1 Switches, SPST, Momentary-tactile, 0.02A, 12VDC, 1.57N, 2 PCB Hole Cnt, Solder Terminal, Surface Mount-right Angle; Manufacturer: E-Switch; Manufacturer Part Number: TL6340AF160Q; Supplier: Mouser; Supplier Part Number: 612-TL6340AF160QG; RoHS: Yes; Category: Tactile Switches; Stock: 2006; Pricing: 1=0,51, 10=0,478, 50=0,478, 100=0,377, 1000=0,313, 10000=0,255 (USD); ComponentLink1URL: https://datasheet.octopart.com/TL6340AF160Q-E-Switch-datasheet-155697155.pdf?src-supplier=Future+Electronics; ComponentLink1Description: https://datasheet.octopart.com/TL6340AF160Q-E-Switch-datasheet-155697155.pdf?src-supplier=Future+Electronics; ComponentLink2URL: https://datasheet.octopart.com/TL6340AF160Q-E-Switch-datasheet-165860010.pdf?src-supplier=TME; ComponentLink2Description: https://datasheet.octopart.com/TL6340AF160Q-E-Switch-datasheet-165860010.pdf?src-supplier=TME
footprint SW_TL6340AF160Q
pins: 1, 2 1

## TPS7A2112PQWDSGRQ1
designator IC?
LDO Voltage Regulators Automotive, 500mA, low-noise ultra-low-IQ high-PSRR low-dropout (LDO) voltage regulator; Manufacturer_Name: Texas Instruments; Manufacturer_Part_Number: TPS7A2112PQWDSGRQ1; Datasheet Link: https://www.ti.com/lit/gpn/tps7a21-q1; Height: 0.8mm
footprint SON50P200X200X80-9N
pins: 1 OUT_1, 2 OUT_2, 3 NC_1, 4 GND, 5 EN, 6 NC_2, 7 IN_1, 8 IN_2, 9 EP

## XC9265A331MR-G
designator IC?, comment LDO
Reguladores de tensão de comutação Ultra Low Power PFM DCDC Converter; Manufacturer_Name: Torex; Manufacturer_Part_Number: XC9265A331MR-G; Datasheet Link: https://www.torexsemi.com/file/xc9265/XC9265.pdf; Height: 1.3mm; Mouser Part Number: 865-XC9265A331MR-G; Mouser Price/Stock: https://www.mouser.co.uk/ProductDetail/Torex-Semiconductor/XC9265A331MR-G?qs=AsjdqWjXhJ9U1u7bKcUHSA%3D%3D
footprint SOT95P280X130-5N
pins: 1 VIN, 2 GND, 3 CE, 4 VOUT, 5 LX